# EAGLE library part TFCARD-DETECT (library Namenlos)
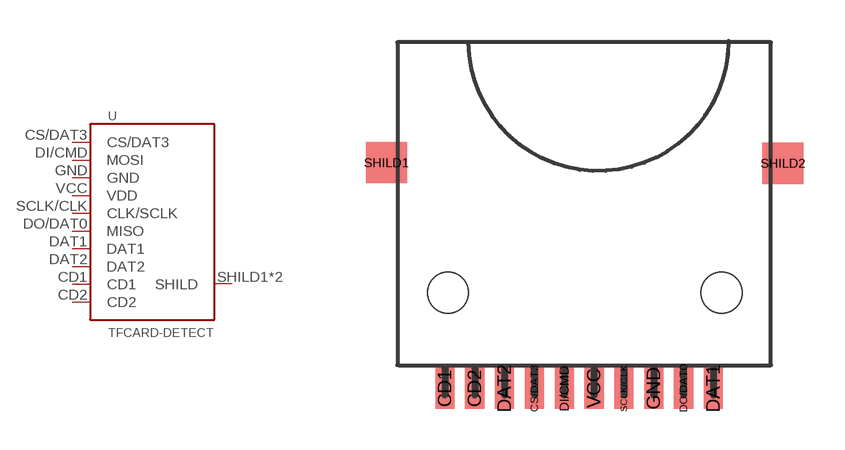
[diagram p45: symbol with the pads of ST-TF-DETECT; footprint ST-TF-DETECT]

Designator prefix -

## TFCARD-DETECT  [ST-TF-DETECT]
CD1  CD1
CD2  CD2
CS/DAT3  CS/DAT3
DAT1  DAT1
DAT2  DAT2
DI/CMD  MOSI
DO/DAT0  MISO
GND  GND  pwr
SCLK/CLK  CLK/SCLK
SHILD1  SHILD  nc
SHILD2  SHILD  nc
VCC  VDD  pwr

## Footprint ST-TF-DETECT (pad centres in mm)
smd 0.7 x 1.5: CD1 -5.29,-2.91; CD2 -4.2,-2.91; CS/DAT3 -2.02,-2.91; DAT1 4.52,-2.91; DAT2 -3.11,-2.91; DI/CMD -0.93,-2.91; DO/DAT0 3.43,-2.91; GND 2.34,-2.91; SCLK/CLK 1.25,-2.91; VCC 0.16,-2.91
smd 1.5 x 1.5: SHILD1 -7.43,5.34; SHILD2 7.06,5.32
hole 1.5 at -5.18,0.59
hole 1.5 at 4.82,0.59